# EAGLE library part MCIMX6L*?10AB (library mcu)
edit this description Auto generated by make-symbol-device-package-bsdl.ulp Rev. 44 Source:
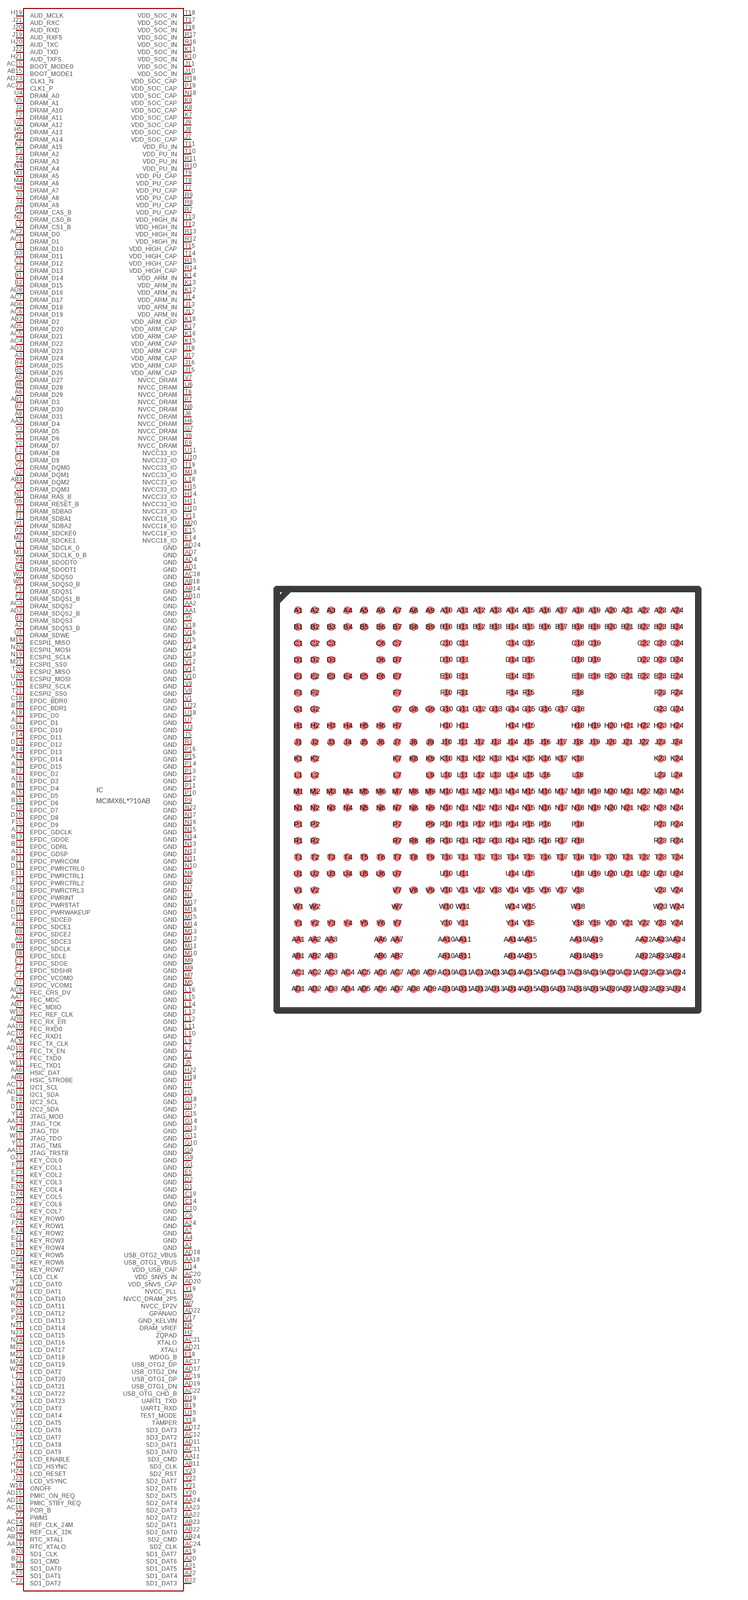
[diagram p2: symbol with the pads of MAPBGA_13X13P0.5MM; footprint MAPBGA_13X13P0.5MM]

Designator prefix IC

## MCIMX6L7DVN10AB  [MAPBGA_13X13P0.5MM]
A1  GND  pwr
A2  DRAM_SDQS3_B
A3  DRAM_D24
A4  GND  pwr
A5  DRAM_D27
A6  DRAM_D29
A7  GND  pwr
A8  DRAM_D31
A9  EPDC_SDCE3  out
A10  EPDC_SDCE1  out
A11  EPDC_GDSP  out
A12  EPDC_GDCLK  out
A13  EPDC_D15  out
A14  EPDC_D14  out
A15  EPDC_D5  out
A16  EPDC_D3  out
A17  EPDC_D1  out
A18  EPDC_D0  out
A19  SD1_DAT7  in
A20  SD1_DAT6  in
A21  SD1_DAT5  in
A22  SD1_DAT4  in
A23  SD1_DAT1  in
A24  GND  pwr
AA1  GND  pwr
AA2  GND  pwr
AA3  DRAM_D4
AA6  HSIC_DAT  in
AA7  FEC_MDC  in
AA10  FEC_RXD0  in
AA11  SD3_CMD  in
AA14  JTAG_TCK  in
AA15  JTAG_TRSTB  in
AA18  USB_OTG1_VBUS  pwr
AA19  RTC_XTALO
AA22  SD2_DAT2  in
AA23  SD2_DAT3  in
AA24  SD2_DAT4  in
AB1  DRAM_D3
AB2  DRAM_D2
AB3  DRAM_DQM2  out
AB6  HSIC_STROBE  in
AB7  FEC_MDIO  in
AB10  GND  pwr
AB11  SD3_CLK  in
AB14  GND  pwr
AB15  BOOT_MODE1  in
AB18  GND  pwr
AB19  RTC_XTALI
AB22  SD2_DAT0  in
AB23  SD2_DAT1  in
AB24  SD2_CMD  in
AC1  DRAM_D1
AC2  DRAM_D0
AC3  DRAM_SDQS2
AC4  DRAM_D22
AC5  DRAM_D21
AC6  DRAM_D19
AC7  DRAM_D17
AC8  FEC_TX_CLK  in
AC9  FEC_CRS_DV  in
AC10  FEC_RXD1  in
AC11  SD3_DAT0  in
AC12  SD3_DAT2  in
AC13  I2C1_SCL  in
AC14  REF_CLK_24M  in
AC15  BOOT_MODE0  in
AC16  POR_B  in
AC17  USB_OTG2_DP
AC18  GND  pwr
AC19  USB_OTG1_DP
AC20  VDD_SNVS_IN  pwr
AC21  XTALO
AC22  USB_OTG_CHD_B
AC23  CLK1_P
AC24  SD2_CLK  in
AD1  GND  pwr
AD2  DRAM_SDQS2_B
AD3  DRAM_D23
AD4  GND  pwr
AD5  DRAM_D20
AD6  DRAM_D18
AD7  GND  pwr
AD8  DRAM_D16
AD9  FEC_RX_ER  in
AD10  FEC_TX_EN  in
AD11  SD3_DAT1  in
AD12  SD3_DAT3  in
AD13  I2C1_SDA  in
AD14  REF_CLK_32K  in
AD15  PMIC_ON_REQ  out
AD16  PMIC_STBY_REQ  out
AD17  USB_OTG2_DN
AD18  USB_OTG2_VBUS  pwr
AD19  USB_OTG1_DN
AD20  VDD_SNVS_CAP  pwr
AD21  XTALI
AD22  GPANAIO  nc
AD23  CLK1_N
AD24  GND  pwr
B1  DRAM_D14
B2  DRAM_D15
B3  DRAM_SDQS3
B4  DRAM_D25
B5  DRAM_D26
B6  DRAM_D28
B7  DRAM_D30
B8  EPDC_SDLE  out
B9  EPDC_SDCE2  out
B10  EPDC_SDCLK  out
B11  EPDC_PWRCOM  out
B12  EPDC_GDRL  out
B13  EPDC_GDOE  out
B14  EPDC_D13  out
B15  EPDC_D6  out
B16  EPDC_D4  out
B17  EPDC_D2  out
B18  EPDC_BDR1  out
B19  UART1_RXD  in
B20  SD1_CLK  in
B21  SD1_CMD  in
B22  SD1_DAT3  in
B23  SD1_DAT0  in
B24  KEY_ROW7  out
C1  DRAM_D12
C2  DRAM_D13
C3  DRAM_DQM3  out
C6  GND  pwr
C7  EPDC_VCOM0  out
C10  GND  pwr
C11  EPDC_SDCE0  out
C14  GND  pwr
C15  EPDC_D7  out
C18  EPDC_BDR0  out
C19  GND  pwr
C22  SD1_DAT2  in
C23  KEY_COL7  out
C24  KEY_ROW6  out
D1  GND  pwr
D2  GND  pwr
D3  DRAM_D11
D6  DRAM_RESET_B  out
D7  EPDC_VCOM1  out
D10  EPDC_PWRWAKEUP  out
D11  EPDC_PWRCTRL0  out
D14  EPDC_D12  out
D15  EPDC_D8  out
D18  I2C2_SDA  in
D19  UART1_TXD  in
D22  KEY_COL6  out
D23  KEY_ROW5  out
D24  KEY_COL5  out
E1  DRAM_D9
E2  DRAM_D8
E3  DRAM_D10
E4  DRAM_SDODT1  out
E5  GND  pwr
E6  NVCC_DRAM  pwr
E7  EPDC_SDOE  out
E10  EPDC_PWRSTAT  out
E11  EPDC_PWRCTRL1  out
E14  NVCC18_IO  pwr
E15  NVCC18_IO  pwr
E18  I2C2_SCL  in
E19  KEY_ROW4  out
E20  KEY_COL4  out
E21  KEY_ROW3  out
E22  KEY_COL3  out
E23  KEY_COL2  out
E24  KEY_ROW2  out
F1  DRAM_SDQS1
F2  DRAM_SDQS1_B
F7  EPDC_SDSHR  out
F10  EPDC_PWRINT  out
F11  EPDC_PWRCTRL2  out
F14  EPDC_D11  out
F15  EPDC_D9  out
F18  WDOG_B  in
F23  KEY_COL1  out
F24  KEY_ROW1  out
G1  GND  pwr
G2  DRAM_DQM1  out
G7  NVCC_DRAM  pwr
G8  GND  pwr
G9  GND  pwr
G10  GND  pwr
G11  GND  pwr
G12  EPDC_PWRCTRL3  out
G13  GND  pwr
G14  GND  pwr
G15  GND  pwr
G16  EPDC_D10  out
G17  GND  pwr
G18  GND  pwr
G23  KEY_COL0  out
G24  KEY_ROW0  out
H1  DRAM_SDBA2  out
H2  ZQPAD  in
H3  GND  pwr
H4  DRAM_A7  out
H5  DRAM_A13  out
H6  NVCC_DRAM  pwr
H7  GND  pwr
H10  NVCC33_IO  pwr
H11  NVCC33_IO  pwr
H14  NVCC33_IO  pwr
H15  NVCC33_IO  pwr
H18  GND  pwr
H19  AUD_MCLK  in
H20  AUD_TXC  in
H21  AUD_TXFS  in
H22  GND  pwr
H23  LCD_HSYNC  out
H24  LCD_RESET  out
J1  DRAM_SDBA0  out
J2  DRAM_A10  out
J3  DRAM_A8  out
J4  DRAM_A9  out
J5  GND  pwr
J6  NVCC_DRAM  pwr
J7  VDD_SOC_CAP  pwr
J8  VDD_SOC_CAP  pwr
J9  VDD_SOC_CAP  pwr
J10  VDD_SOC_IN  pwr
J11  VDD_SOC_IN  pwr
J12  VDD_ARM_IN  pwr
J13  VDD_ARM_IN  pwr
J14  VDD_ARM_IN  pwr
J15  VDD_ARM_CAP  pwr
J16  VDD_ARM_CAP  pwr
J17  VDD_ARM_CAP  pwr
J18  VDD_ARM_CAP  pwr
J19  AUD_RXFS  in
J20  AUD_RXD  in
J21  AUD_RXC  in
J22  AUD_TXD  in
J23  LCD_VSYNC  out
J24  LCD_ENABLE  out
K1  GND  pwr
K2  DRAM_A15  out
K7  VDD_SOC_CAP  pwr
K8  VDD_SOC_CAP  pwr
K9  VDD_SOC_CAP  pwr
K10  VDD_SOC_IN  pwr
K11  VDD_SOC_IN  pwr
K12  VDD_ARM_IN  pwr
K13  VDD_ARM_IN  pwr
K14  VDD_ARM_IN  pwr
K15  VDD_ARM_CAP  pwr
K16  VDD_ARM_CAP  pwr
K17  VDD_ARM_CAP  pwr
K18  VDD_ARM_CAP  pwr
K23  LCD_DAT22  out
K24  LCD_DAT23  out
L1  DRAM_SDCLK_0  out
L2  DRAM_CS1_B  out
L7  GND  pwr
L9  GND  pwr
L10  GND  pwr
L11  GND  pwr
L12  GND  pwr
L13  GND  pwr
L14  GND  pwr
L15  GND  pwr
L16  GND  pwr
L18  NVCC33_IO  pwr
L23  LCD_DAT20  out
L24  LCD_DAT21  out
M1  DRAM_SDCLK_0_B  out
M2  DRAM_SDCKE1  out
M3  DRAM_A5  out
M4  DRAM_A6  out
M5  GND  pwr
M6  NVCC_DRAM_2P5  pwr
M7  GND  pwr
M8  GND  pwr
M9  GND  pwr
M10  GND  pwr
M11  GND  pwr
M12  GND  pwr
M13  GND  pwr
M14  GND  pwr
M15  GND  pwr
M16  GND  pwr
M17  GND  pwr
M18  NVCC33_IO  pwr
M19  ECSPI1_MISO
M20  NVCC18_IO  pwr
M21  ECSPI1_SS0
M22  LCD_DAT17  out
M23  LCD_DAT18  out
M24  LCD_DAT19  out
N1  DRAM_RAS_B  out
N2  DRAM_CS0_B  out
N3  GND  pwr
N4  DRAM_A4  out
N5  DRAM_VREF  pwr
N6  NVCC_DRAM  pwr
N7  GND  pwr
N8  GND  pwr
N9  GND  pwr
N10  GND  pwr
N11  GND  pwr
N12  GND  pwr
N13  GND  pwr
N14  GND  pwr
N15  GND  pwr
N16  GND  pwr
N17  GND  pwr
N18  VDD_SOC_CAP  pwr
N19  ECSPI1_SCLK
N20  ECSPI1_MOSI
N21  LCD_DAT14  out
N22  GND  pwr
N23  LCD_DAT15  out
N24  LCD_DAT16  out
P1  DRAM_CAS_B  out
P2  DRAM_SDCKE0  out
P7  NVCC_DRAM  pwr
P9  GND  pwr
P10  GND  pwr
P11  GND  pwr
P12  GND  pwr
P13  GND  pwr
P14  GND  pwr
P15  GND  pwr
P16  GND  pwr
P18  VDD_SOC_CAP  pwr
P23  LCD_DAT12  out
P24  LCD_DAT13  out
R1  GND  pwr
R2  DRAM_A14  out
R7  VDD_PU_CAP  pwr
R8  VDD_PU_CAP  pwr
R9  VDD_PU_CAP  pwr
R10  VDD_PU_IN  pwr
R11  VDD_PU_IN  pwr
R12  VDD_HIGH_IN  pwr
R13  VDD_HIGH_IN  pwr
R14  VDD_HIGH_CAP  pwr
R15  VDD_HIGH_CAP  pwr
R16  VDD_SOC_IN  pwr
R17  VDD_SOC_IN  pwr
R18  VDD_SOC_CAP  pwr
R23  LCD_DAT10  out
R24  LCD_DAT11  out
T1  DRAM_SDBA1  out
T2  DRAM_A11  out
T3  DRAM_A2  out
T4  DRAM_A3  out
T5  GND  pwr
T6  NVCC_DRAM  pwr
T7  VDD_PU_CAP  pwr
T8  VDD_PU_CAP  pwr
T9  VDD_PU_CAP  pwr
T10  VDD_PU_IN  pwr
T11  VDD_PU_IN  pwr
T12  VDD_HIGH_IN  pwr
T13  VDD_HIGH_IN  pwr
T14  VDD_HIGH_CAP  pwr
T15  VDD_HIGH_CAP  pwr
T16  VDD_SOC_IN  pwr
T17  VDD_SOC_IN  pwr
T18  VDD_SOC_IN  pwr
T19  NVCC33_IO  pwr
T20  ECSPI2_MISO
T21  ECSPI2_SS0
T22  LCD_CLK  out
T23  LCD_DAT8  out
T24  LCD_DAT9  out
U1  DRAM_SDWE  out
U2  DRAM_A12  out
U3  GND  pwr
U4  DRAM_A0  out
U5  DRAM_A1  out
U6  NVCC_DRAM  pwr
U7  GND  pwr
U10  NVCC33_IO  pwr
U11  NVCC33_IO  pwr
U14  VDD_USB_CAP  pwr
U15  TEST_MODE  in
U18  GND  pwr
U19  ECSPI2_SCLK
U20  ECSPI2_MOSI
U21  LCD_DAT5  out
U22  GND  pwr
U23  LCD_DAT6  out
U24  LCD_DAT7  out
V1  GND  pwr
V2  DRAM_DQM0  out
V7  NVCC_DRAM  pwr
V8  GND  pwr
V9  GND  pwr
V10  GND  pwr
V11  GND  pwr
V12  GND  pwr
V13  GND  pwr
V14  GND  pwr
V15  GND  pwr
V16  GND  pwr
V17  GND_KELVIN  pwr
V18  GND  pwr
V23  LCD_DAT3  out
V24  LCD_DAT4  out
W1  DRAM_SDQS0_B
W2  DRAM_SDQS0
W7  NVCC_1P2V  pwr
W10  FEC_REF_CLK  in
W11  FEC_TXD1  in
W14  JTAG_TDI  in
W15  JTAG_TDO  out
W18  ONOFF  in
W23  LCD_DAT1  out
W24  LCD_DAT2  out
Y1  DRAM_D6
Y2  DRAM_D7
Y3  DRAM_D5
Y4  DRAM_SDODT0  out
Y5  GND  pwr
Y6  NVCC_DRAM  pwr
Y7  PWM1  in
Y10  FEC_TXD0  in
Y11  NVCC18_IO  pwr
Y14  JTAG_MOD  in
Y15  JTAG_TMS  in
Y18  TAMPER  in
Y19  NVCC_PLL  pwr
Y20  SD2_DAT5  in
Y21  SD2_DAT6  in
Y22  SD2_DAT7  in
Y23  SD2_RST  in
Y24  LCD_DAT0  out

## Footprint MAPBGA_13X13P0.5MM (pad centres in mm)
edit this description Auto generated by make-symbol-device-package-bsdl.ulp Rev. 44 Source:
smd 0.25 x 0.25: A1 -5.75,5.75; A2 -5.25,5.75; A3 -4.75,5.75; A4 -4.25,5.75; A5 -3.75,5.75; A6 -3.25,5.75; A7 -2.75,5.75; A8 -2.25,5.75; A9 -1.75,5.75; A10 -1.25,5.75; A11 -0.75,5.75; A12 -0.25,5.75; A13 0.25,5.75; A14 0.75,5.75; A15 1.25,5.75; A16 1.75,5.75; A17 2.25,5.75; A18 2.75,5.75; A19 3.25,5.75; A20 3.75,5.75; A21 4.25,5.75; A22 4.75,5.75; A23 5.25,5.75; A24 5.75,5.75; AA1 -5.75,-4.25; AA2 -5.25,-4.25; AA3 -4.75,-4.25; AA6 -3.25,-4.25; AA7 -2.75,-4.25; AA10 -1.25,-4.25; AA11 -0.75,-4.25; AA14 0.75,-4.25; AA15 1.25,-4.25; AA18 2.75,-4.25; AA19 3.25,-4.25; AA22 4.75,-4.25; AA23 5.25,-4.25; AA24 5.75,-4.25; AB1 -5.75,-4.75; AB2 -5.25,-4.75; AB3 -4.75,-4.75; AB6 -3.25,-4.75; AB7 -2.75,-4.75; AB10 -1.25,-4.75; AB11 -0.75,-4.75; AB14 0.75,-4.75; AB15 1.25,-4.75; AB18 2.75,-4.75; AB19 3.25,-4.75; AB22 4.75,-4.75; AB23 5.25,-4.75; AB24 5.75,-4.75; AC1 -5.75,-5.25; AC2 -5.25,-5.25; AC3 -4.75,-5.25; AC4 -4.25,-5.25; AC5 -3.75,-5.25; AC6 -3.25,-5.25; AC7 -2.75,-5.25; AC8 -2.25,-5.25; AC9 -1.75,-5.25; AC10 -1.25,-5.25; AC11 -0.75,-5.25; AC12 -0.25,-5.25; AC13 0.25,-5.25; AC14 0.75,-5.25; AC15 1.25,-5.25; AC16 1.75,-5.25; AC17 2.25,-5.25; AC18 2.75,-5.25; AC19 3.25,-5.25; AC20 3.75,-5.25; AC21 4.25,-5.25; AC22 4.75,-5.25; AC23 5.25,-5.25; AC24 5.75,-5.25; AD1 -5.75,-5.75; AD2 -5.25,-5.75; AD3 -4.75,-5.75; AD4 -4.25,-5.75; AD5 -3.75,-5.75; AD6 -3.25,-5.75; AD7 -2.75,-5.75; AD8 -2.25,-5.75; AD9 -1.75,-5.75; AD10 -1.25,-5.75; AD11 -0.75,-5.75; AD12 -0.25,-5.75; AD13 0.25,-5.75; AD14 0.75,-5.75; AD15 1.25,-5.75; AD16 1.75,-5.75; AD17 2.25,-5.75; AD18 2.75,-5.75; AD19 3.25,-5.75; AD20 3.75,-5.75; AD21 4.25,-5.75; AD22 4.75,-5.75; AD23 5.25,-5.75; AD24 5.75,-5.75; B1 -5.75,5.25; B2 -5.25,5.25; B3 -4.75,5.25; B4 -4.25,5.25; B5 -3.75,5.25; B6 -3.25,5.25; B7 -2.75,5.25; B8 -2.25,5.25; B9 -1.75,5.25; B10 -1.25,5.25; B11 -0.75,5.25; B12 -0.25,5.25; B13 0.25,5.25; B14 0.75,5.25; B15 1.25,5.25; B16 1.75,5.25; B17 2.25,5.25; B18 2.75,5.25; B19 3.25,5.25; B20 3.75,5.25; B21 4.25,5.25; B22 4.75,5.25; B23 5.25,5.25; B24 5.75,5.25; C1 -5.75,4.75; C2 -5.25,4.75; C3 -4.75,4.75; C6 -3.25,4.75; C7 -2.75,4.75; C10 -1.25,4.75; C11 -0.75,4.75; C14 0.75,4.75; C15 1.25,4.75; C18 2.75,4.75; C19 3.25,4.75; C22 4.75,4.75; C23 5.25,4.75; C24 5.75,4.75; D1 -5.75,4.25; D2 -5.25,4.25; D3 -4.75,4.25; D6 -3.25,4.25; D7 -2.75,4.25; D10 -1.25,4.25; D11 -0.75,4.25; D14 0.75,4.25; D15 1.25,4.25; D18 2.75,4.25; D19 3.25,4.25; D22 4.75,4.25; D23 5.25,4.25; D24 5.75,4.25; E1 -5.75,3.75; E2 -5.25,3.75; E3 -4.75,3.75; E4 -4.25,3.75; E5 -3.75,3.75; E6 -3.25,3.75; E7 -2.75,3.75; E10 -1.25,3.75; E11 -0.75,3.75; E14 0.75,3.75; E15 1.25,3.75; E18 2.75,3.75; E19 3.25,3.75; E20 3.75,3.75; E21 4.25,3.75; E22 4.75,3.75; E23 5.25,3.75; E24 5.75,3.75; F1 -5.75,3.25; F2 -5.25,3.25; F7 -2.75,3.25; F10 -1.25,3.25; F11 -0.75,3.25; F14 0.75,3.25; F15 1.25,3.25; F18 2.75,3.25; F23 5.25,3.25; F24 5.75,3.25; G1 -5.75,2.75; G2 -5.25,2.75; G7 -2.75,2.75; G8 -2.25,2.75; G9 -1.75,2.75; G10 -1.25,2.75; G11 -0.75,2.75; G12 -0.25,2.75; G13 0.25,2.75; G14 0.75,2.75; G15 1.25,2.75; G16 1.75,2.75; G17 2.25,2.75; G18 2.75,2.75; G23 5.25,2.75; G24 5.75,2.75; H1 -5.75,2.25; H2 -5.25,2.25; H3 -4.75,2.25; H4 -4.25,2.25; H5 -3.75,2.25; H6 -3.25,2.25; H7 -2.75,2.25; H10 -1.25,2.25; H11 -0.75,2.25; H14 0.75,2.25; H15 1.25,2.25; H18 2.75,2.25; H19 3.25,2.25; H20 3.75,2.25; H21 4.25,2.25; H22 4.75,2.25; H23 5.25,2.25; H24 5.75,2.25; J1 -5.75,1.75; J2 -5.25,1.75; J3 -4.75,1.75; J4 -4.25,1.75; J5 -3.75,1.75; J6 -3.25,1.75; J7 -2.75,1.75; J8 -2.25,1.75; J9 -1.75,1.75; J10 -1.25,1.75; J11 -0.75,1.75; J12 -0.25,1.75; J13 0.25,1.75; J14 0.75,1.75; J15 1.25,1.75; J16 1.75,1.75; J17 2.25,1.75; J18 2.75,1.75; J19 3.25,1.75; J20 3.75,1.75; J21 4.25,1.75; J22 4.75,1.75; J23 5.25,1.75; J24 5.75,1.75; K1 -5.75,1.25; K2 -5.25,1.25; K7 -2.75,1.25; K8 -2.25,1.25; K9 -1.75,1.25; K10 -1.25,1.25; K11 -0.75,1.25; K12 -0.25,1.25; K13 0.25,1.25; K14 0.75,1.25; K15 1.25,1.25; K16 1.75,1.25; K17 2.25,1.25; K18 2.75,1.25; K23 5.25,1.25; K24 5.75,1.25; L1 -5.75,0.75; L2 -5.25,0.75; L7 -2.75,0.75; L9 -1.75,0.75; L10 -1.25,0.75; L11 -0.75,0.75; L12 -0.25,0.75; L13 0.25,0.75; L14 0.75,0.75; L15 1.25,0.75; L16 1.75,0.75; L18 2.75,0.75; L23 5.25,0.75; L24 5.75,0.75; M1 -5.75,0.25; M2 -5.25,0.25; M3 -4.75,0.25; M4 -4.25,0.25; M5 -3.75,0.25; M6 -3.25,0.25; M7 -2.75,0.25; M8 -2.25,0.25; M9 -1.75,0.25; M10 -1.25,0.25; M11 -0.75,0.25; M12 -0.25,0.25; M13 0.25,0.25; M14 0.75,0.25; M15 1.25,0.25; M16 1.75,0.25; M17 2.25,0.25; M18 2.75,0.25; M19 3.25,0.25; M20 3.75,0.25; M21 4.25,0.25; M22 4.75,0.25; M23 5.25,0.25; M24 5.75,0.25; N1 -5.75,-0.25; N2 -5.25,-0.25; N3 -4.75,-0.25; N4 -4.25,-0.25; N5 -3.75,-0.25; N6 -3.25,-0.25; N7 -2.75,-0.25; N8 -2.25,-0.25; N9 -1.75,-0.25; N10 -1.25,-0.25; N11 -0.75,-0.25; N12 -0.25,-0.25; N13 0.25,-0.25; N14 0.75,-0.25; N15 1.25,-0.25; N16 1.75,-0.25; N17 2.25,-0.25; N18 2.75,-0.25; N19 3.25,-0.25; N20 3.75,-0.25; N21 4.25,-0.25; N22 4.75,-0.25; N23 5.25,-0.25; N24 5.75,-0.25; P1 -5.75,-0.75; P2 -5.25,-0.75; P7 -2.75,-0.75; P9 -1.75,-0.75; P10 -1.25,-0.75; P11 -0.75,-0.75; P12 -0.25,-0.75; P13 0.25,-0.75; P14 0.75,-0.75; P15 1.25,-0.75; P16 1.75,-0.75; P18 2.75,-0.75; P23 5.25,-0.75; P24 5.75,-0.75; R1 -5.75,-1.25; R2 -5.25,-1.25; R7 -2.75,-1.25; R8 -2.25,-1.25; R9 -1.75,-1.25; R10 -1.25,-1.25; R11 -0.75,-1.25; R12 -0.25,-1.25; R13 0.25,-1.25; R14 0.75,-1.25; R15 1.25,-1.25; R16 1.75,-1.25; R17 2.25,-1.25; R18 2.75,-1.25; R23 5.25,-1.25; R24 5.75,-1.25; T1 -5.75,-1.75; T2 -5.25,-1.75; T3 -4.75,-1.75; T4 -4.25,-1.75; T5 -3.75,-1.75; T6 -3.25,-1.75; T7 -2.75,-1.75; T8 -2.25,-1.75; T9 -1.75,-1.75; T10 -1.25,-1.75; T11 -0.75,-1.75; T12 -0.25,-1.75; T13 0.25,-1.75; T14 0.75,-1.75; T15 1.25,-1.75; T16 1.75,-1.75; T17 2.25,-1.75; T18 2.75,-1.75; T19 3.25,-1.75; T20 3.75,-1.75; T21 4.25,-1.75; T22 4.75,-1.75; T23 5.25,-1.75; T24 5.75,-1.75; U1 -5.75,-2.25; U2 -5.25,-2.25; U3 -4.75,-2.25; U4 -4.25,-2.25; U5 -3.75,-2.25; U6 -3.25,-2.25; U7 -2.75,-2.25; U10 -1.25,-2.25; U11 -0.75,-2.25; U14 0.75,-2.25; U15 1.25,-2.25; U18 2.75,-2.25; U19 3.25,-2.25; U20 3.75,-2.25; U21 4.25,-2.25; U22 4.75,-2.25; U23 5.25,-2.25; U24 5.75,-2.25; V1 -5.75,-2.75; V2 -5.25,-2.75; V7 -2.75,-2.75; V8 -2.25,-2.75; V9 -1.75,-2.75; V10 -1.25,-2.75; V11 -0.75,-2.75; V12 -0.25,-2.75; V13 0.25,-2.75; V14 0.75,-2.75; V15 1.25,-2.75; V16 1.75,-2.75; V17 2.25,-2.75; V18 2.75,-2.75; V23 5.25,-2.75; V24 5.75,-2.75; W1 -5.75,-3.25; W2 -5.25,-3.25; W7 -2.75,-3.25; W10 -1.25,-3.25; W11 -0.75,-3.25; W14 0.75,-3.25; W15 1.25,-3.25; W18 2.75,-3.25; W23 5.25,-3.25; W24 5.75,-3.25; Y1 -5.75,-3.75; Y2 -5.25,-3.75; Y3 -4.75,-3.75; Y4 -4.25,-3.75; Y5 -3.75,-3.75; Y6 -3.25,-3.75; Y7 -2.75,-3.75; Y10 -1.25,-3.75; Y11 -0.75,-3.75; Y14 0.75,-3.75; Y15 1.25,-3.75; Y18 2.75,-3.75; Y19 3.25,-3.75; Y20 3.75,-3.75; Y21 4.25,-3.75; Y22 4.75,-3.75; Y23 5.25,-3.75; Y24 5.75,-3.75